# Altium footprint library SMAJ.PcbLib: 1 footprints
Each footprint in its own frame and in the unit in brackets; x right, y up, seen from the top. Pads: shape width x height; smd on the part's side, far side on the other; paste and mask are expansions set on the pad; w line width, h text height; cw(c..) or ccw(c..) is an arc to the next point about the centre after c.
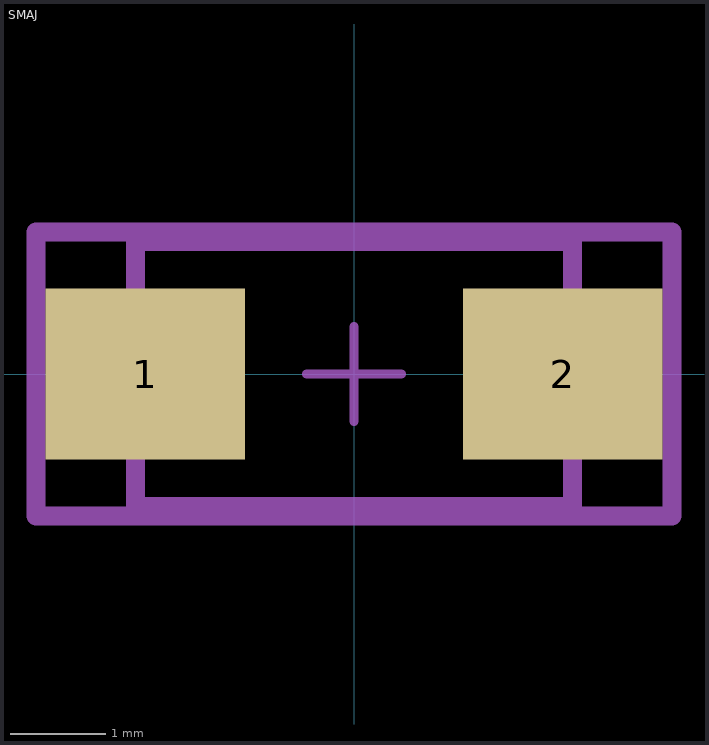
[diagram p0: the footprint, top view; thin cyan lines are the x and y axes]

## SMAJ [mm]
height 1.6
pads (2):
  rect 2.1x1.8 smd paste+0 mask+0: 1(-2.2,0) 2(2.2,0)
Top Courtyard:
  lines w0.2: -3.35,-1.495 -3.35,1.495 3.35,1.495 3.35,-1.495 -3.35,-1.495
Top 3D Body:
  lines w0.2: -2.3,-1.395 -2.3,1.395 2.3,1.395 2.3,-1.395 -2.3,-1.395
Top Assembly:
  lines w0.2: -3.35,-1.495 -3.35,1.495 3.35,1.495 3.35,-1.495 -3.35,-1.495
  text ".Designator" at 0.776,0.054 h1
Top Component Center:
  lines w0.1: -0.5,0 0.5,0 ; 0,-0.5 0,0.5
3D body "Diode_Littelfuse_Inc_SMAJ58CA_eec.STEP": height 2.29, standoff 0, extent -2.552,-1.335 2.552,1.33